# Altium footprint library SMBJ.PcbLib: 1 footprints
Each footprint in its own frame and in the unit in brackets; x right, y up, seen from the top. Pads: shape width x height; smd on the part's side, far side on the other; paste and mask are expansions set on the pad; w line width, h text height; cw(c..) or ccw(c..) is an arc to the next point about the centre after c.
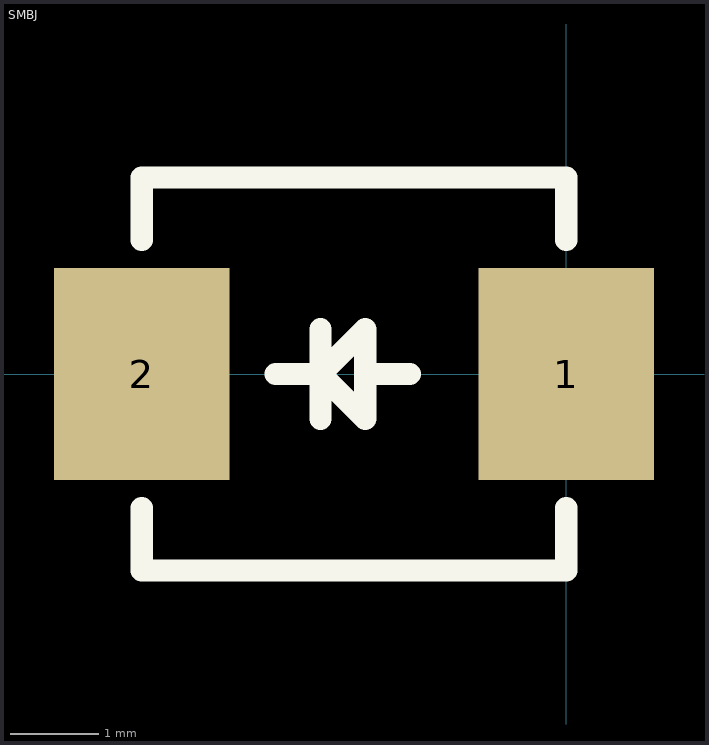
[diagram p0: the footprint, top view; thin cyan lines are the x and y axes]

## SMBJ [mm]
pads (2):
  rect 2x2.41 smd: 1(0,0) 2(-4.826,0)
TopOverlay:
  lines w0.254: -4.826,-1.524 -4.826,-2.235 -0.026,-2.235 ; -4.826,1.524 -4.826,2.235 -0.026,2.235 ; -3.302,0 -2.794,0 ; -2.794,-0.508 -2.794,0 ; -2.794,0.508 -2.794,0 ; -1.778,0 -2.286,0 ; 0,-2.235 0,-1.524 ; 0,1.524 0,2.235 ; -2.794,0 -2.286,0.508 -2.286,0 ; -2.794,0 -2.286,-0.508 -2.286,0
Mechanical4:
  text ".105" at -4.826,0 h0.03